# Altium footprint library custom.PcbLib: 2 footprints
Each footprint in its own frame and in the unit in brackets; x right, y up, seen from the top. Pads: shape width x height; smd on the part's side, far side on the other; paste and mask are expansions set on the pad; w line width, h text height; cw(c..) or ccw(c..) is an arc to the next point about the centre after c.
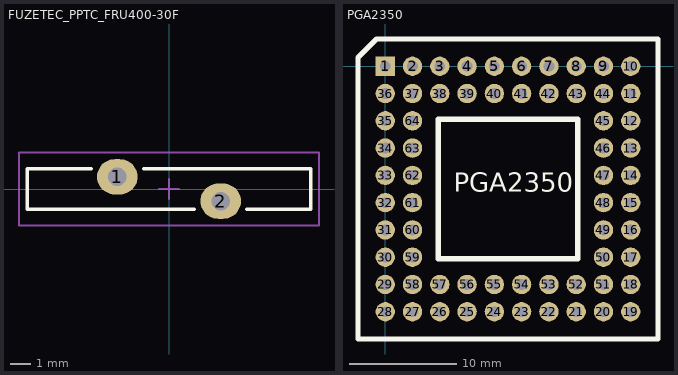
[diagram p0: the footprints below, top view; thin cyan lines are the x and y axes]

## FUZETEC_PPTC_FRU400-30F [mm] "FUZETEC FRU400-30F PPTC Resettable Fuse"
height 21
pads (2):
  oval 2x1.75 hole 0.9: 1(-2.55,0.6) 2(2.55,-0.6)
Top Overlay:
  lines w0.18: -3.85,1 -7,1 -7,-1 1.25,-1 ; -1.25,1 7,1 7,-1 3.85,-1
Mechanical 15:
  lines w0.1: -0.5,0 0.5,0 ; 0,-0.5 0,0.5 ; -7.4,-1.8 -7.4,1.8 7.4,1.8 7.4,-1.8 -7.4,-1.8
3D body "User Library-TE_CONNECTIVITY_RUEF400.STEP": height 20.1, standoff -7.6, extent -7,-1.005 7,1.005

## PGA2350 [mm] "RP2350B carrier module"
height 14
pads (64):
  rect 1.8x1.8 hole 1: 1(0,0)
  round 1.8 hole 1: 2(2.54,0) 3(5.08,0) 4(7.62,0) 5(10.16,0) 6(12.7,0) 7(15.24,0) 8(17.78,0) 9(20.32,0) 10(22.86,0) 11(22.86,-2.54) 12(22.86,-5.08) 13(22.86,-7.62) 14(22.86,-10.16) 15(22.86,-12.7) 16(22.86,-15.24) 17(22.86,-17.78) 18(22.86,-20.32) 19(22.86,-22.86) 20(20.32,-22.86) 21(17.78,-22.86) 22(15.24,-22.86) 23(12.7,-22.86) 24(10.16,-22.86) 25(7.62,-22.86) 26(5.08,-22.86) 27(2.54,-22.86) 28(0,-22.86) 29(0,-20.32) 30(0,-17.78) 31(0,-15.24) 32(0,-12.7) 33(0,-10.16) 34(0,-7.62) 35(0,-5.08) 36(0,-2.54) 37(2.54,-2.54) 38(5.08,-2.54) 39(7.62,-2.54) 40(10.16,-2.54) 41(12.7,-2.54) 42(15.24,-2.54) 43(17.78,-2.54) 44(20.32,-2.54) 45(20.32,-5.08) 46(20.32,-7.62) 47(20.32,-10.16) 48(20.32,-12.7) 49(20.32,-15.24) 50(20.32,-17.78) 51(20.32,-20.32) 52(17.78,-20.32) 53(15.24,-20.32) 54(12.7,-20.32) 55(10.16,-20.32) 56(7.62,-20.32) 57(5.08,-20.32) 58(2.54,-20.32) 59(2.54,-17.78) 60(2.54,-15.24) 61(2.54,-12.7) 62(2.54,-10.16) 63(2.54,-7.62) 64(2.54,-5.08)
Top Overlay:
  lines w0.5: -2.54,-25.4 25.4,-25.4 25.4,2.54 -0.81,2.54 -2.54,0.81 -2.54,-25.4 ; 4.93,-17.93 4.93,-4.93 17.93,-4.93 17.93,-17.93 4.93,-17.93
  text "PGA2350" at 6.36,-12.271 h3
3D body "female_header_a-bl254-dg-g16d.stp": height 8.5, standoff -3.2, extent 3.685,-3.77 24.255,1.23
3D body "female_header_a-bl254-dg-g16d.stp": height 8.5, standoff -3.2, extent -1.23,-19.175 3.77,1.395
3D body "female_header_a-bl254-dg-g16d.stp": height 8.5, standoff -3.2, extent -1.395,-24.09 19.175,-19.09
3D body "female_header_a-bl254-dg-g16d.stp": height 8.5, standoff -3.2, extent 19.09,-24.255 24.09,-3.685
3D body "PGA2350.STEP": height 14.45, standoff 1.76, extent -1.27,-24.13 24.13,1.27